# Altium footprint library Resistors.PcbLib: 6 footprints
Each footprint in its own frame and in the unit in brackets; x right, y up, seen from the top. Pads: shape width x height; smd on the part's side, far side on the other; paste and mask are expansions set on the pad; w line width, h text height; cw(c..) or ccw(c..) is an arc to the next point about the centre after c.
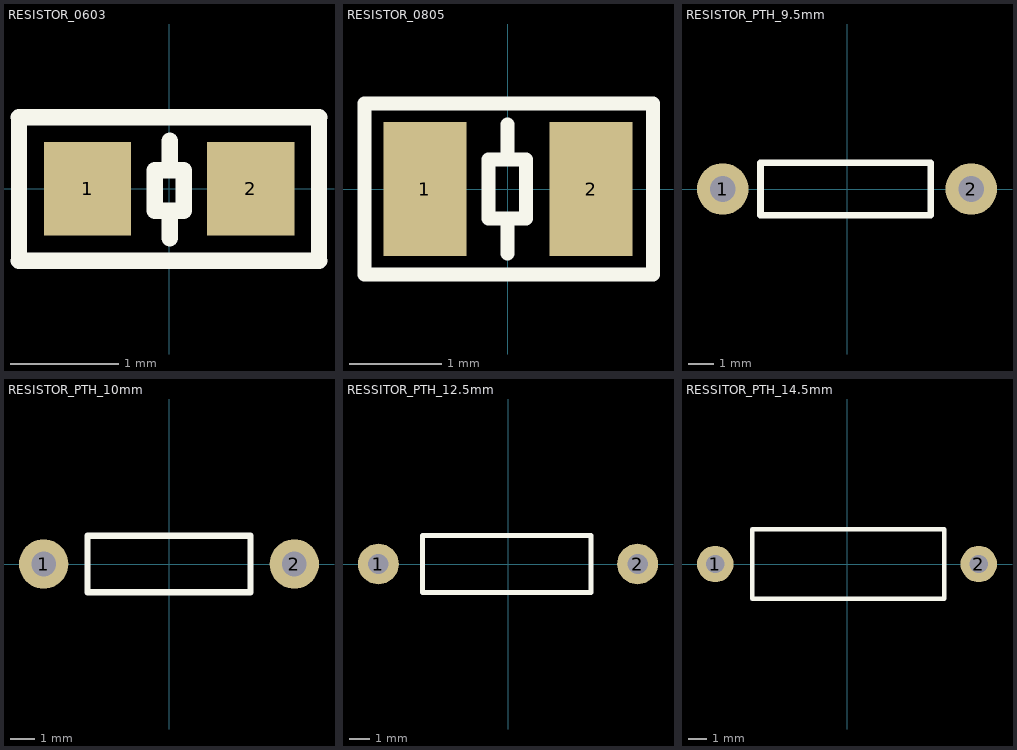
[diagram p0: the footprints below, top view; thin cyan lines are the x and y axes]

## RESISTOR_0603 [mm]
pads (2):
  rect 0.806x0.864 smd: 1(-0.753,0) 2(0.753,0)
Top Overlay:
  lines w0.152: 0.004,-0.456 0.004,-0.202 ; 0.004,0.173 0.004,0.444 ; -1.385,-0.661 1.382,-0.662 1.382,0.66 -1.385,0.66 -1.385,-0.661 ; -0.135,-0.202 -0.135,0.173 0.135,0.173 0.135,-0.202 -0.135,-0.202
3D body "RESISTOR_0603.step": height 0.47, standoff 0.01, extent -0.795,-0.402 0.805,0.398

## RESISTOR_0805 [mm]
pads (2):
  rect 0.9x1.45 smd: 1(-0.9,0) 2(0.9,0)
Top Overlay:
  lines w0.152: -0.006,-0.697 -0.006,-0.316 ; -0.006,0.7 -0.006,0.319 ; -0.006,-0.316 0.197,-0.316 0.197,0.319 -0.006,0.319 ; -0.006,-0.316 -0.209,-0.316 -0.209,0.319 -0.006,0.319 ; -1.555,-0.925 -1.555,0.929 1.569,0.929 1.569,-0.925 -1.555,-0.925
3D body "R0805.STEP": height 0.46, standoff -0.01, extent -0.98,-0.636 1.02,0.614

## RESISTOR_PTH_9.5mm [mm]
pads (2):
  round 2 hole 1: 1(-4.826,0) 2(4.826,0)
Top Overlay:
  lines w0.254: -3.36,-1.016 -3.36,1.016 3.244,1.016 3.244,-1.016 -3.36,-1.016
3D body "1K-Resistor 0.25w Beige- Diameter 2- 9.5- 5%.stp": height 2.61, standoff -3.7, extent -4.999,-1.111 4.999,1.11

## RESISTOR_PTH_10mm [mm]
pads (2):
  round 2 hole 1: 1(-5.08,0) 2(5.08,0)
Top Overlay:
  lines w0.254: -3.302,-1.143 -3.302,1.143 3.302,1.143 3.302,-1.143 -3.302,-1.143
3D body "RESISTOR.step": height 2.4, standoff -2.73, extent -5.33,-1.143 5.33,1.15

## RESSITOR_PTH_12.5mm [mm]
pads (2):
  round 2 hole 1: 1(-6.35,0) 2(6.35,0)
Top Overlay:
  lines w0.254: -4.191,-1.397 4.064,-1.397 4.064,1.397 -4.191,1.397 -4.191,-1.397
3D body "1K-Resistor 0.5w Beige- Diameter 2.5- 12.5- 5%.stp": height 3.2, standoff -3.6, extent -6.549,-1.509 6.549,1.5

## RESSITOR_PTH_14.5mm [mm]
pads (2):
  round 2 hole 1: 1(-7.239,0) 2(7.239,0)
Top Overlay:
  lines w0.254: -5.207,-1.905 5.334,-1.905 5.334,1.905 -5.207,1.905 -5.207,-1.905
3D body "1K-Resistor 1w Blue- Diameter 3.5- 14.5- 1%.stp": height 4.31, standoff -3.5, extent -7.549,-2.015 7.549,2.016